# Altium footprint library PcbLib1.PcbLib: 5 footprints
Each footprint in its own frame and in the unit in brackets; x right, y up, seen from the top. Pads: shape width x height; smd on the part's side, far side on the other; paste and mask are expansions set on the pad; w line width, h text height; cw(c..) or ccw(c..) is an arc to the next point about the centre after c.
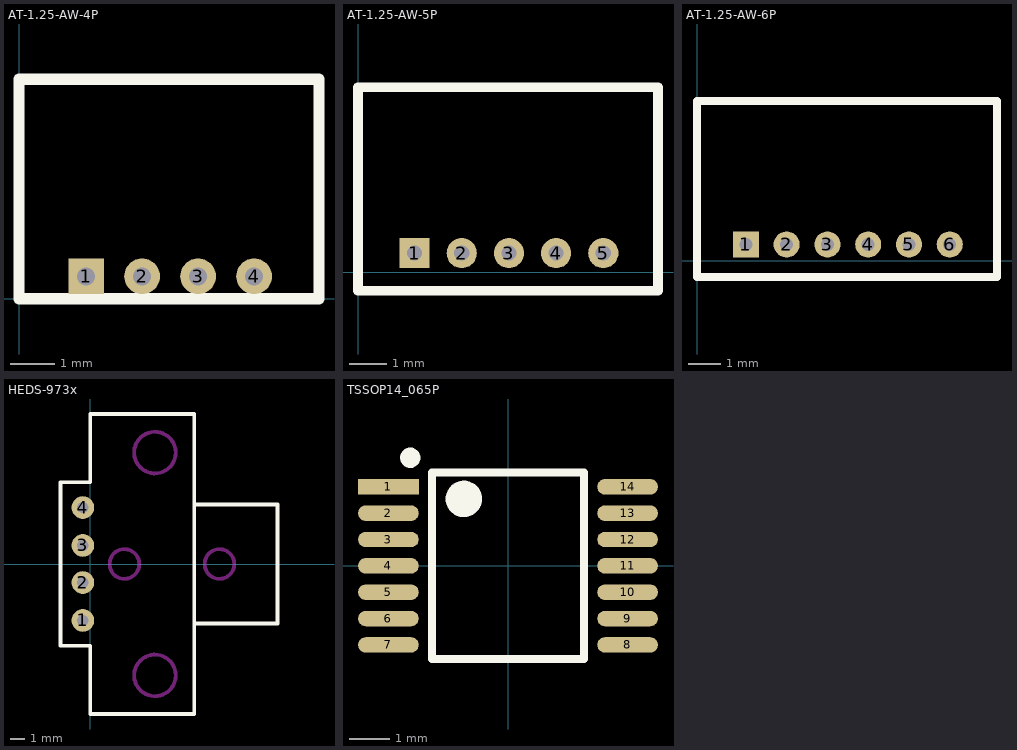
[diagram p0: the footprints below, top view; thin cyan lines are the x and y axes]

## AT-1.25-AW-4P [mm]
pads (4):
  rect 0.8x0.8 hole 0.4: 1(1.5,0.5)
  round 0.8 hole 0.4: 2(2.75,0.5) 3(4,0.5) 4(5.25,0.5)
Top Overlay:
  lines w0.254: 0,0 0,4.9 6.7,4.9 6.7,0 0,0

## AT-1.25-AW-5P [mm]
pads (5):
  rect 0.8x0.8 hole 0.4: 1(1.5,0.5)
  round 0.8 hole 0.4: 2(2.75,0.5) 3(4,0.5) 4(5.25,0.5) 5(6.5,0.5)
Top Overlay:
  lines w0.254: 0,-0.5 7.95,-0.5 7.95,4.9 0,4.9 0,-0.5

## AT-1.25-AW-6P [mm]
pads (6):
  rect 0.8x0.8 hole 0.4: 1(1.5,0.5)
  round 0.8 hole 0.4: 2(2.75,0.5) 3(4,0.5) 4(5.25,0.5) 5(6.5,0.5) 6(7.75,0.5)
Top Overlay:
  lines w0.254: 0,-0.5 0,4.9 9.2,4.9 9.2,-0.5 0,-0.5

## HEDS-973x [mil]
pads (4):
  round 60 hole 30: 1(-19.68,-149.61) 2(-19.68,-49.21) 3(-19.68,49.21) 4(-19.68,149.61)
Top Overlay:
  lines w10: 275.59,-157.48 496.06,-157.48 496.06,157.48 275.59,157.48 ; -78.74,-216.54 0,-216.54 0,-397.64 275.59,-397.64 275.59,397.64 0,397.64 0,216.54 -78.74,216.54 -78.74,-216.54
Keep-Out Layer:
  circle w10: c90.55,0 r39.37
  circle w10: c342.52,0 r39.37
  circle w10: c171.26,-295.28 r55.12
  circle w10: c171.26,295.28 r55.12

## TSSOP14_065P [mm]
pads (14):
  rect 1.5x0.38 smd: 1(-2.95,1.95)
  oval 1.5x0.38 smd: 2(-2.95,1.3) 3(-2.95,0.65) 4(-2.95,0) 5(-2.95,-0.65) 6(-2.95,-1.3) 7(-2.95,-1.95) 8(2.95,-1.95) 9(2.95,-1.3) 10(2.95,-0.65) 11(2.95,0) 12(2.95,0.65) 13(2.95,1.3) 14(2.95,1.95)
Top Overlay:
  circle w0.25: c-2.411,2.667 r0.125
  circle w0.5: c-1.089,1.651 r0.2
  lines w0.2: -1.875,-2.3 -1.875,2.3 1.875,2.3 1.875,-2.3 -1.875,-2.3